# EAGLE library part ACS712ELCTR-30A-T (library ACS712ELCTR-30A-T)
Fully Integrated, Hall-Effect-Based Linear Current Sensor IC with 2.1 kVRMS Voltage Isolation and a Low-Resistance Current Conductor Source: Datasheet <https://www.allegromicro.com/-/media/files/datasheets/acs712-datasheet.ashx>
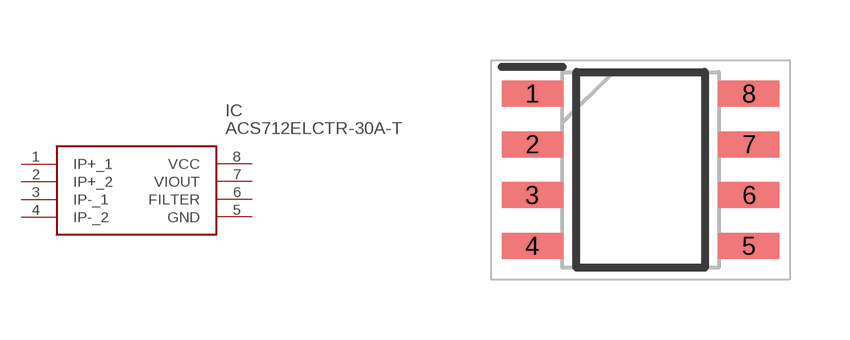
[diagram p0: symbol with the pads of SOIC127P600X175-8N; footprint SOIC127P600X175-8N]

Designator prefix IC

## ACS712ELCTR-30A-T (Arrow_Part_Number: ACS712ELCTR-30A-T; Arrow_Price-Stock: https://www.arrow.com/en/products/acs712elctr-30a-t/allegro-microsystems?region=nac; Description: Fully Integrated, Hall-Effect-Based Linear Current Sensor IC with 2.1 kVRMS Voltage Isolation and a Low-Resistance Current Conductor; Height: 1.75mm; Manufacturer_Name: Allegro Microsystems; Manufacturer_Part_Number: ACS712ELCTR-30A-T)  [SOIC127P600X175-8N]
1  IP+_1
2  IP+_2
3  IP-_1
4  IP-_2
5  GND
6  FILTER
7  VIOUT
8  VCC

## Footprint SOIC127P600X175-8N (pad centres in mm)
LC 8-pin SOIC
smd 1.525 x 0.65: 1 -2.712,1.905; 2 -2.712,0.635; 3 -2.712,-0.635; 4 -2.712,-1.905; 5 2.712,-1.905; 6 2.712,-0.635; 7 2.712,0.635; 8 2.712,1.905